# Altium schematic symbol library Schlib1.SchLib: 6 symbols
Pins are listed as number, name and electrical type; pins without a type are passive.

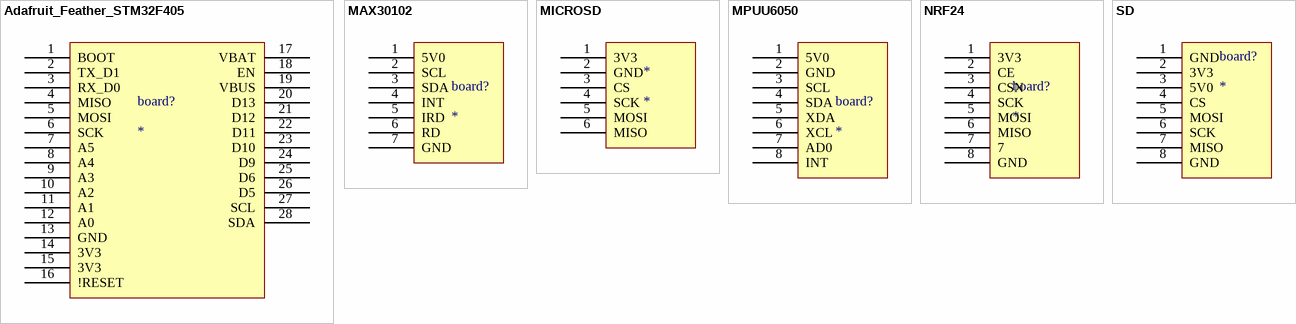
[diagram p0: symbols Adafruit_Feather_STM32F405 to SD]

## Adafruit_Feather_STM32F405
designator board?
footprint Adafruit_Feather_STM32F405
pins: 1 BOOT, 2 TX_D1, 3 RX_D0, 4 MISO, 5 MOSI, 6 SCK, 7 A5, 8 A4, 9 A3, 10 A2, 11 A1, 12 A0, 13 GND, 14 3V3, 15 3V3, 16 !RESET, 17 VBAT, 18 EN, 19 VBUS, 20 D13, 21 D12, 22 D11, 23 D10, 24 D9, 25 D6, 26 D5, 27 SCL, 28 SDA

## MAX30102
designator board?
footprint max30102
pins: 1 5V0, 2 SCL, 3 SDA, 4 INT, 5 IRD, 6 RD, 7 GND

## MICROSD
designator *
footprint Model Name (Footprint not found)
footprint microSD
pins: 1 3V3, 2 GND, 3 CS, 4 SCK, 5 MOSI, 6 MISO

## MPUU6050
designator board?
footprint Model Name (Footprint not found)
footprint mpu6050
pins: 1 5V0, 2 GND, 3 SCL, 4 SDA, 5 XDA, 6 XCL, 7 AD0, 8 INT

## NRF24
designator board?
footprint nrf24
pins: 1 3V3, 2 CE, 3 CSN, 4 SCK, 5 MOSI, 6 MISO, 7, 8 GND

## SD
designator board?
footprint sd
pins: 1 GND, 2 3V3, 3 5V0, 4 CS, 5 MOSI, 6 SCK, 7 MISO, 8 GND